# Altium schematic symbol library Header 2x7.SchLib: 1 symbol
Pins are listed as number, name and electrical type; pins without a type are passive.

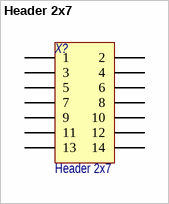
[diagram p0: symbol Header 2x7]

## Header 2x7
designator X?
Header, 14-Pin, Dual row; Назначение: Header, 10-Pin, Dual row; Потребление: 0,0; Наиемнование: Header 2x7
footprint DS1014-14SF1B (IDC 14-pin straight 2mm pitch)
pins: 1, 2, 3, 4, 5, 6, 7, 8, 9, 10, 11, 12, 13, 14